# EAGLE library part SN74AUP1G04DRYR (library SN74AUP1G04DRYR)
LOW-POWER SINGLE INVERTER GATE
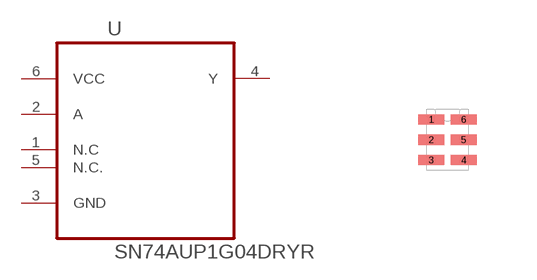
[diagram p0: symbol with the pads of SON50P100X145X60-6N; footprint SON50P100X145X60-6N]

Designator prefix U

## SN74AUP1G04DRYR (Description: Low-Power Single Inverter Gate 6-SON -40 to 85; Digi-Key_Part_Number: 296-27339-1-ND; Digi-Key_Purchase_URL: https://www.digikey.pr/product-detail/en/texas-instruments/SN74AUP1G04DRYR/296-27339-1-ND/2279300?utm_source=snapeda&utm_medium=aggregator&utm_campaign=symbol; MF: Texas Instruments; MP: SN74AUP1G04DRYR; Package: SON-6 Texas Instruments)  [SON50P100X145X60-6N]
1  N.C  nc
2  A  in
3  GND  pas
4  Y  out
5  N.C.  nc
6  VCC  pwr

## Footprint SON50P100X145X60-6N (pad centres in mm)
smd 0.66 x 0.254: 1 -0.406,0.508; 2 -0.406,0; 3 -0.406,-0.508; 4 0.406,-0.508; 5 0.406,0; 6 0.406,0.508